# Altium footprint library CeleronLib_Connect.PcbLib: 219 footprints (part 8 of 14)
Each footprint in its own frame and in the unit in brackets; x right, y up, seen from the top. Pads: shape width x height; smd on the part's side, far side on the other; paste and mask are expansions set on the pad; w line width, h text height; cw(c..) or ccw(c..) is an arc to the next point about the centre after c.
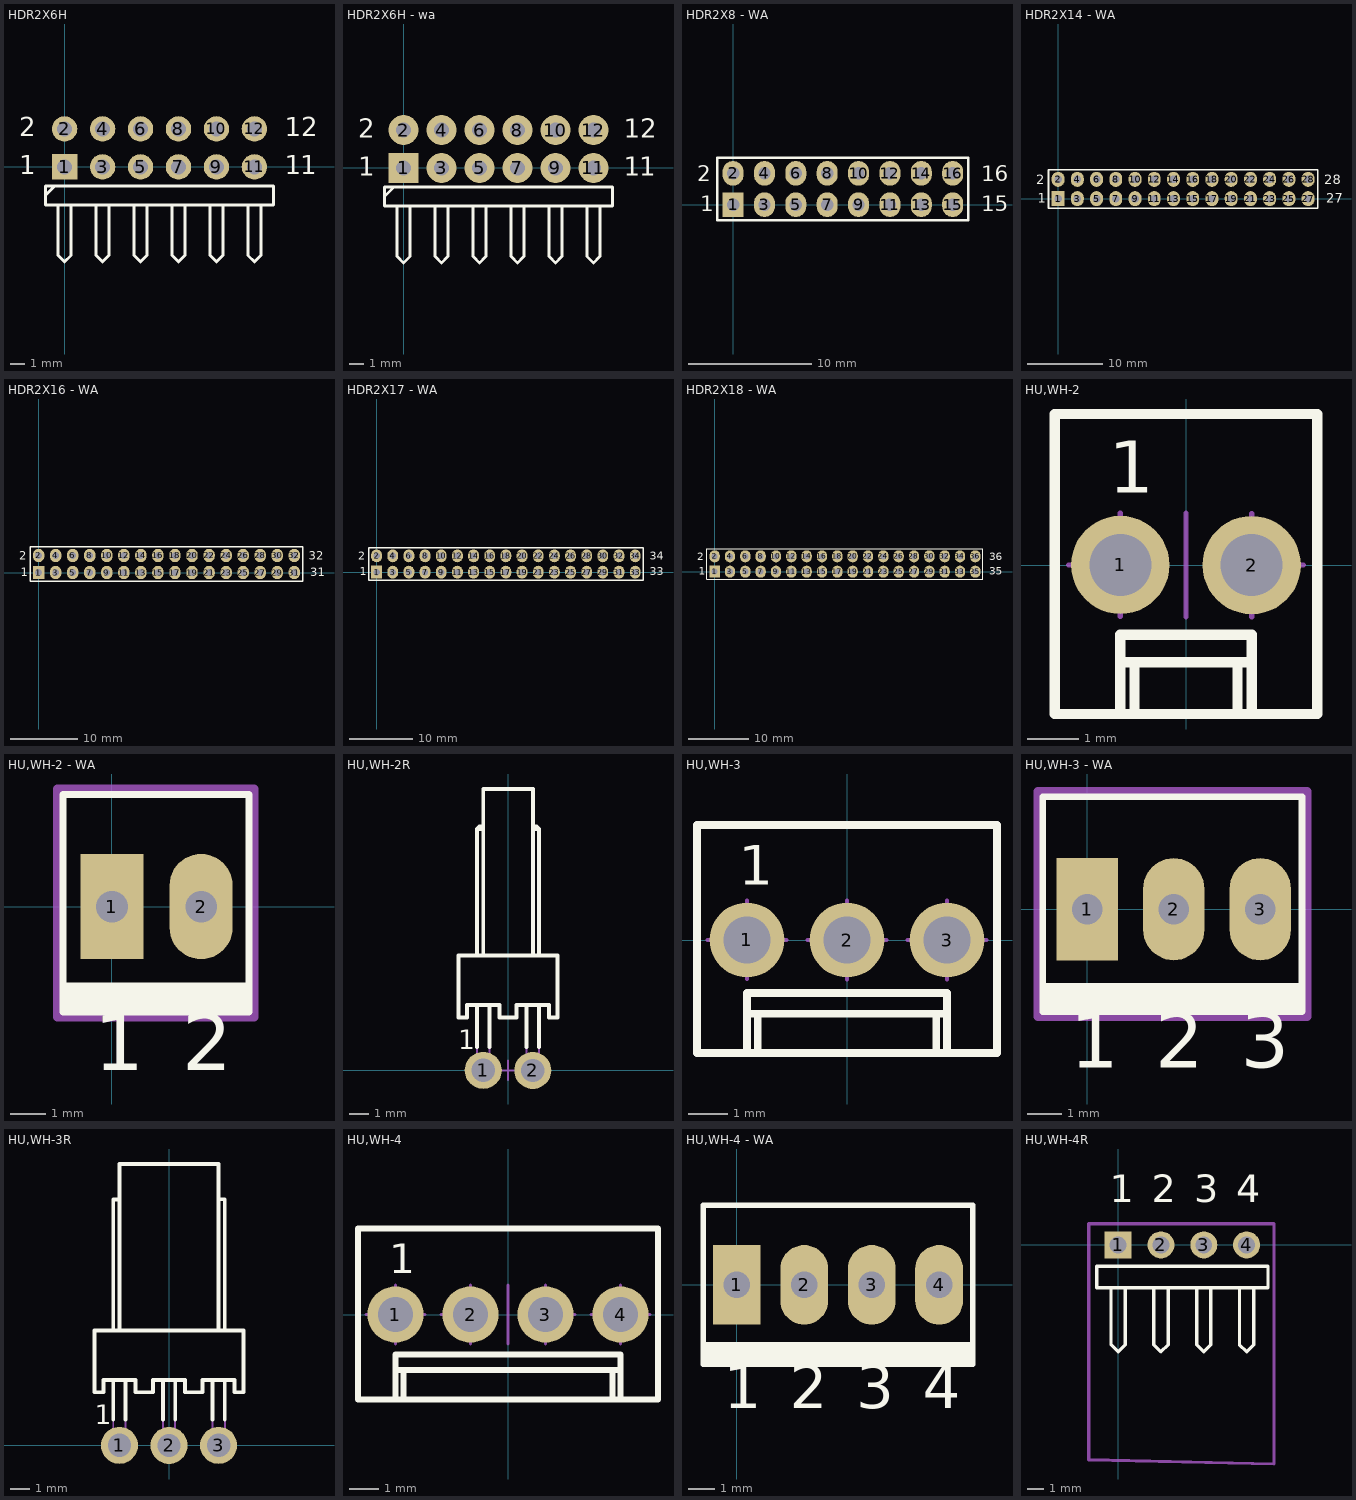
[diagram p7: the footprints below, top view; thin cyan lines are the x and y axes]

## HDR2X6H [mm] "Connector; Header; 6x2 Position; Right Angle"
height 7.5
pads (12):
  rect 1.7x1.7 hole 1: 1(0,0)
  round 1.7 hole 1: 2(0,2.54) 3(2.54,0) 4(2.54,2.54) 5(5.08,0) 6(5.08,2.54) 7(7.62,0) 8(7.62,2.54) 9(10.16,0) 10(10.16,2.54) 11(12.7,0) 12(12.7,2.54)
Top Overlay:
  lines w0.2: -1.27,-1.905 -0.635,-1.27 ; -0.423,-2.54 -0.423,-5.927 0,-6.35 0.423,-5.927 0.423,-2.54 ; 2.117,-2.54 2.117,-5.927 2.54,-6.35 2.963,-5.927 2.963,-2.54 ; 4.657,-2.54 4.657,-5.927 5.08,-6.35 5.503,-5.927 5.503,-2.54 ; 7.197,-2.54 7.197,-5.927 7.62,-6.35 8.043,-5.927 8.043,-2.54 ; 9.737,-2.54 9.737,-5.927 10.16,-6.35 10.583,-5.927 10.583,-2.54 ; 12.277,-2.54 12.277,-5.927 12.7,-6.35 13.123,-5.927 13.123,-2.54 ; -1.27,-2.54 -1.27,-1.27 13.97,-1.27 13.97,-2.54 -1.27,-2.54
  text "12" at 14.732,2.032 h1.27
  text "1" at 15.748,-0.508 h1.27
  text "1" at 14.732,-0.508 h1.27
  text "1" at -3.048,-0.508 h1.27
  text "2" at -3.048,2.032 h1.27

## HDR2X6H - wa [mm] "Connector; Header; 6x2 Position; Right Angle"
height 7.5
pads (12):
  rect 2x2 hole 1: 1(0,0)
  round 2 hole 1: 2(0,2.54) 3(2.54,0) 4(2.54,2.54) 5(5.08,0) 6(5.08,2.54) 7(7.62,0) 8(7.62,2.54) 9(10.16,0) 10(10.16,2.54) 11(12.7,0) 12(12.7,2.54)
Top Overlay:
  lines w0.2: -1.27,-1.905 -0.635,-1.27 ; -0.423,-2.54 -0.423,-5.927 0,-6.35 0.423,-5.927 0.423,-2.54 ; 2.117,-2.54 2.117,-5.927 2.54,-6.35 2.963,-5.927 2.963,-2.54 ; 4.657,-2.54 4.657,-5.927 5.08,-6.35 5.503,-5.927 5.503,-2.54 ; 7.197,-2.54 7.197,-5.927 7.62,-6.35 8.043,-5.927 8.043,-2.54 ; 9.737,-2.54 9.737,-5.927 10.16,-6.35 10.583,-5.927 10.583,-2.54 ; 12.277,-2.54 12.277,-5.927 12.7,-6.35 13.123,-5.927 13.123,-2.54 ; -1.27,-2.54 13.97,-2.54 13.97,-1.27 -1.27,-1.27 -1.27,-2.54
  text "2" at -3.048,2.032 h1.27
  text "1" at -3.048,-0.508 h1.27
  text "1" at 14.732,-0.508 h1.27
  text "1" at 15.748,-0.508 h1.27
  text "12" at 14.732,2.032 h1.27

## HDR2X8 - WA [mm] "Connector; Header; 16 Position"
height 8.54
pads (16):
  rect 1.7x2 hole 1: 1(0,0)
  oval 1.7x2 hole 1: 2(0,2.54) 3(2.54,0) 4(2.54,2.54) 5(5.08,0) 6(5.08,2.54) 7(7.62,0) 8(7.62,2.54) 9(10.16,0) 10(10.16,2.54) 11(12.7,0) 12(12.7,2.54) 13(15.24,0) 14(15.24,2.54) 15(17.78,0) 16(17.78,2.54)
Top Overlay:
  lines w0.2: -1.27,-1.27 -1.27,3.81 19.05,3.81 19.05,-1.27 -1.27,-1.27
  text "15" at 20.1,-0.533 h1.27
  text "16" at 20.1,1.905 h1.27
  text "2" at -2.921,1.905 h1.27
  text "1" at -2.665,-0.533 h1.27
3D body: height 9.55, standoff -2.95, extent 8.89,-1.27 19.05,3.81
3D body: height 9.55, standoff -2.95, extent -1.27,-1.27 8.89,3.81

## HDR2X14 - WA [mm] "Connector; Header; 28 Position"
height 8.54
pads (28):
  rect 1.7x2 hole 1: 1(0,0)
  oval 1.7x2 hole 1: 2(0,2.54) 3(2.54,0) 4(2.54,2.54) 5(5.08,0) 6(5.08,2.54) 7(7.62,0) 8(7.62,2.54) 9(10.16,0) 10(10.16,2.54) 11(12.7,0) 12(12.7,2.54) 13(15.24,0) 14(15.24,2.54) 15(17.78,0) 16(17.78,2.54) 17(20.32,0) 18(20.32,2.54) 19(22.86,0) 20(22.86,2.54) 21(25.4,0) 22(25.4,2.54) 23(27.94,0) 24(27.94,2.54) 25(30.48,0) 26(30.48,2.54) 27(33.02,0) 28(33.02,2.54)
Top Overlay:
  lines w0.2: -1.27,-1.27 -1.27,3.81 34.29,3.81 34.29,-1.27 -1.27,-1.27
  text "27" at 35.435,-0.533 h1.27
  text "28" at 35.179,1.905 h1.27
  text "2" at -2.921,1.905 h1.27
  text "1" at -2.665,-0.533 h1.27
3D body: height 9.55, standoff -2.95, extent 24.13,-1.27 34.29,3.81
3D body: height 9.55, standoff -2.95, extent 16.51,-1.27 26.67,3.81
3D body: height 9.55, standoff -2.95, extent 8.89,-1.27 19.05,3.81
3D body: height 9.55, standoff -2.95, extent -1.27,-1.27 8.89,3.81

## HDR2X16 - WA [mm] "Connector; Header; 32 Position"
height 8.54
pads (32):
  rect 1.7x2 hole 1: 1(0,0)
  oval 1.7x2 hole 1: 2(0,2.54) 3(2.54,0) 4(2.54,2.54) 5(5.08,0) 6(5.08,2.54) 7(7.62,0) 8(7.62,2.54) 9(10.16,0) 10(10.16,2.54) 11(12.7,0) 12(12.7,2.54) 13(15.24,0) 14(15.24,2.54) 15(17.78,0) 16(17.78,2.54) 17(20.32,0) 18(20.32,2.54) 19(22.86,0) 20(22.86,2.54) 21(25.4,0) 22(25.4,2.54) 23(27.94,0) 24(27.94,2.54) 25(30.48,0) 26(30.48,2.54) 27(33.02,0) 28(33.02,2.54) 29(35.56,0) 30(35.56,2.54) 31(38.1,0) 32(38.1,2.54)
Top Overlay:
  lines w0.2: -1.27,-1.27 -1.27,3.81 39.37,3.81 39.37,-1.27 -1.27,-1.27
  text "31" at 40.515,-0.533 h1.27
  text "32" at 40.259,1.905 h1.27
  text "2" at -2.921,1.905 h1.27
  text "1" at -2.665,-0.533 h1.27
3D body: height 9.55, standoff -2.95, extent 29.21,-1.27 39.37,3.81
3D body: height 9.55, standoff -2.95, extent 19.05,-1.27 29.21,3.81
3D body: height 9.55, standoff -2.95, extent 8.89,-1.27 19.05,3.81
3D body: height 9.55, standoff -2.95, extent -1.27,-1.27 8.89,3.81

## HDR2X17 - WA [mm] "Connector; Header; 34 Position"
height 8.54
pads (34):
  rect 1.7x2 hole 1: 1(0,0)
  oval 1.7x2 hole 1: 2(0,2.54) 3(2.54,0) 4(2.54,2.54) 5(5.08,0) 6(5.08,2.54) 7(7.62,0) 8(7.62,2.54) 9(10.16,0) 10(10.16,2.54) 11(12.7,0) 12(12.7,2.54) 13(15.24,0) 14(15.24,2.54) 15(17.78,0) 16(17.78,2.54) 17(20.32,0) 18(20.32,2.54) 19(22.86,0) 20(22.86,2.54) 21(25.4,0) 22(25.4,2.54) 23(27.94,0) 24(27.94,2.54) 25(30.48,0) 26(30.48,2.54) 27(33.02,0) 28(33.02,2.54) 29(35.56,0) 30(35.56,2.54) 31(38.1,0) 32(38.1,2.54) 33(40.64,0) 34(40.64,2.54)
Top Overlay:
  lines w0.2: -1.27,-1.27 -1.27,3.81 41.91,3.81 41.91,-1.27 -1.27,-1.27
  text "33" at 42.96,-0.533 h1.27
  text "34" at 42.96,1.905 h1.27
  text "2" at -2.921,1.905 h1.27
  text "1" at -2.665,-0.533 h1.27
3D body: height 9.55, standoff -2.95, extent 29.21,-1.27 39.37,3.81
3D body: height 9.55, standoff -2.95, extent 19.05,-1.27 29.21,3.81
3D body: height 9.55, standoff -2.95, extent 8.89,-1.27 19.05,3.81
3D body: height 9.55, standoff -2.95, extent -1.27,-1.27 8.89,3.81
3D body: height 9.55, standoff -2.95, extent 31.75,-1.27 41.91,3.81

## HDR2X18 - WA [mm] "Connector; Header; 36 Position"
height 8.54
pads (36):
  rect 1.7x2 hole 1: 1(0,0)
  oval 1.7x2 hole 1: 2(0,2.54) 3(2.54,0) 4(2.54,2.54) 5(5.08,0) 6(5.08,2.54) 7(7.62,0) 8(7.62,2.54) 9(10.16,0) 10(10.16,2.54) 11(12.7,0) 12(12.7,2.54) 13(15.24,0) 14(15.24,2.54) 15(17.78,0) 16(17.78,2.54) 17(20.32,0) 18(20.32,2.54) 19(22.86,0) 20(22.86,2.54) 21(25.4,0) 22(25.4,2.54) 23(27.94,0) 24(27.94,2.54) 25(30.48,0) 26(30.48,2.54) 27(33.02,0) 28(33.02,2.54) 29(35.56,0) 30(35.56,2.54) 31(38.1,0) 32(38.1,2.54) 33(40.64,0) 34(40.64,2.54) 35(43.18,0) 36(43.18,2.54)
Top Overlay:
  lines w0.2: -1.27,-1.27 -1.27,3.81 44.45,3.81 44.45,-1.27 -1.27,-1.27
  text "35" at 45.5,-0.533 h1.27
  text "36" at 45.5,1.905 h1.27
  text "2" at -2.921,1.905 h1.27
  text "1" at -2.665,-0.533 h1.27
3D body: height 9.55, standoff -2.95, extent 29.21,-1.27 39.37,3.81
3D body: height 9.55, standoff -2.95, extent 19.05,-1.27 29.21,3.81
3D body: height 9.55, standoff -2.95, extent 8.89,-1.27 19.05,3.81
3D body: height 9.55, standoff -2.95, extent -1.27,-1.27 8.89,3.81
3D body: height 9.55, standoff -2.95, extent 34.29,-1.27 44.45,3.81

## HU,WH-2 [mm] "2.54mm (.100\") Pitch KK® Header, Single Row, Vertical, 2 Circuits"
height 11.7
pads (2):
  round 1.9 hole 1.2: 1(-1.27,0.002) 2(1.27,-0.002)
Top Overlay:
  lines w0.2: -1.27,-2.88 -1.27,-1.35 1.27,-1.35 1.27,-2.88 ; -1.27,-1.88 1.27,-1.88 ; -0.997,-2.88 -0.997,-1.88 ; 0.997,-2.88 0.997,-1.88 ; -2.54,-2.88 -2.54,2.92 2.54,2.92 2.54,-2.88 -2.54,-2.88
  text "1" at -1.49,1.397 h1
Mechanical 8:
  lines w0.1: -2.27,0.002 -1.27,0.002 ; -1.27,-0.998 -1.27,0.002 ; -1.27,1.002 -1.27,0.002 ; 0,-1 0,0 0,1 ; 1.27,-1.002 1.27,-0.002 ; 1.27,0.998 1.27,-0.002 ; 2.27,-0.002 1.27,-0.002
Top Assy:
  lines w0.1: -1.27,-2.88 -1.27,-1.35 1.27,-1.35 1.27,-2.88 ; -1.27,-1.88 1.27,-1.88 ; -0.997,-2.88 -0.997,-1.88 ; 0.997,-2.88 0.997,-1.88 ; -2.54,-2.88 -2.54,2.92 2.54,2.92 2.54,-2.88 -2.54,-2.88 ; -1.59,-0.315 -1.59,0.32 -0.95,0.32 -0.95,-0.315 -1.59,-0.315 ; 0.95,-0.32 1.59,-0.32 1.59,0.32 0.95,0.32 0.95,-0.32
  text "1" at -1.49,1.397 h1
3D body: height 11.7, standoff -3.56, extent -2.54,-2.88 2.54,2.92

## HU,WH-2 - WA [mm] "Connector; Header; 2 Position"
height 16.2
pads (2):
  rect 1.8x3 hole 0.9: 1(0,0)
  oval 1.8x3 hole 0.9: 2(2.54,0)
Top Overlay:
  rectangle: -1.4,-3 4,-2.159
  lines w0.2: -1.4,-3 -1.4,3.2 3.9,3.2 3.9,-3 -1.4,-3
  text "2" at 2,-5.2 h2.8
  text "1" at -0.5,-5.2 h2.8
Top Courtyard:
  lines w0.254: -1.55,-3.15 4.05,-3.15 4.05,3.35 -1.55,3.35 -1.55,-3.15
3D body: height 11.45, standoff -2.95, extent -1.25,-2.6 3.75,3.2

## HU,WH-2R [mm] "2.54mm (.100\") Pitch KK® Wire-To-Board Header, Right Angle, With Friction Lock, 2 Circuits"
height 5.8
pads (2):
  round 1.9 hole 1.2: 1(-1.27,0.002) 2(1.27,-0.002)
Top Overlay:
  lines w0.2: -1.587,1.209 -1.587,3.355 ; -1.587,5.895 -1.587,12.368 ; -1.27,5.895 -1.27,14.42 1.27,14.42 1.27,5.895 ; -1.27,12.368 -1.587,12.368 ; -1.27,12.495 -1.46,12.495 -1.587,12.368 ; -0.953,1.209 -0.953,3.355 ; 0.953,1.209 0.953,3.355 ; 1.27,12.368 1.587,12.368 ; 1.27,12.495 1.46,12.495 1.587,12.368 ; 1.587,1.209 1.587,3.355 ; 1.587,5.895 1.587,12.368 ; -2.54,2.72 -2.095,2.72 -2.095,3.355 -0.445,3.355 -0.445,2.72 0.445,2.72 0.445,3.355 2.095,3.355 2.095,2.72 2.54,2.72 2.54,5.895 -2.54,5.895 -2.54,2.72
  text "1" at -2.542,1.095 h1
Mechanical 8:
  lines w0.1: -1.77,0 -1.27,0 ; -1.27,-0.5 -1.27,0 ; -1.27,0.5 -1.27,0 ; -0.77,0 -1.27,0 ; -0.5,0 0,0 ; 0,-0.5 0,0 ; 0,0.5 0,0 ; 0.5,0 0,0 ; 0.77,0 1.27,0 ; 1.27,-0.5 1.27,0 ; 1.27,0.5 1.27,0 ; 1.77,0 1.27,0
Top Assy:
  lines w0.1: -1.587,3.355 -1.587,-0.318 -0.953,-0.318 -0.953,3.355 ; -1.587,5.895 -1.587,12.368 ; -1.27,5.895 -1.27,14.42 1.27,14.42 1.27,5.895 ; -1.27,12.368 -1.587,12.368 ; -1.27,12.495 -1.46,12.495 -1.587,12.368 ; 0.953,3.355 0.953,-0.318 1.587,-0.318 1.587,3.355 ; 1.27,12.368 1.587,12.368 ; 1.27,12.495 1.46,12.495 1.587,12.368 ; 1.587,5.895 1.587,12.368 ; -2.54,2.72 -2.095,2.72 -2.095,3.355 -0.445,3.355 -0.445,2.72 0.445,2.72 0.445,3.355 2.095,3.355 2.095,2.72 2.54,2.72 2.54,5.895 -2.54,5.895 -2.54,2.72
  text "1" at -2.542,1.095 h1
3D body: height 5.84, standoff -3.8, extent -2.54,-0.317 2.54,14.42

## HU,WH-3 [mm] "2.54mm (.100\") Pitch KK® Header, Single Row, Vertical, 3 Circuits"
height 11.7
pads (3):
  round 1.9 hole 1.2: 1(-2.54,0.005) 2(0,0) 3(2.54,0)
Top Overlay:
  lines w0.2: -2.54,-2.873 -2.54,-1.342 2.54,-1.342 2.54,-2.873 ; -2.54,-1.873 2.54,-1.873 ; -2.267,-2.873 -2.267,-1.873 ; 2.267,-2.873 2.267,-1.873 ; -3.81,-2.873 3.81,-2.873 3.81,2.928 -3.81,2.928 -3.81,-2.873
  text "1" at -2.75,1.4 h1
Mechanical 8:
  lines w0.1: -3.54,0.005 -2.54,0.005 ; -2.54,-0.995 -2.54,0.005 ; -2.54,1.005 -2.54,0.005 ; -1.54,0.005 -2.54,0.005 ; -1,0 0,0 ; 0,-1 0,0 ; 0,1 0,0 ; 1,0 0,0 ; 1.54,0 2.54,0 ; 2.54,-1 2.54,0 ; 2.54,1 2.54,0 ; 3.54,0 2.54,0
Top Assy:
  lines w0.1: -2.86,-0.312 -2.22,-0.312 -2.22,0.327 -2.86,0.327 -2.86,-0.308 ; -2.54,-2.873 -2.54,-1.342 2.54,-1.342 2.54,-2.873 ; -2.54,-1.873 2.54,-1.873 ; -2.267,-2.873 -2.267,-1.873 ; -0.32,-0.318 0.32,-0.318 0.32,0.323 -0.32,0.323 -0.32,-0.312 ; 2.22,-0.318 2.86,-0.318 2.86,0.323 2.22,0.323 2.22,-0.312 ; 2.267,-2.873 2.267,-1.873 ; -3.81,-2.873 3.81,-2.873 3.81,2.928 -3.81,2.928 -3.81,-2.873
  text "1" at -2.75,1.4 h1
3D body: height 11.7, standoff -3.56, extent -3.81,-2.873 3.81,2.927

## HU,WH-3 - WA [mm] "Connector; Header; 3 Position"
height 16.2
pads (3):
  rect 1.8x3 hole 0.9: 1(0,0)
  oval 1.8x3 hole 0.9: 2(2.54,0) 3(5.08,0)
Top Overlay:
  rectangle: -1.25,-3 6.3,-2.159
  lines w0.2: -1.3,-3 6.3,-3 6.3,3.3 -1.3,3.3 -1.3,-3
  text "2" at 2,-5.2 h2.8
  text "3" at 4.5,-5.2 h2.8
  text "1" at -0.5,-5.2 h2.8
Top Courtyard:
  lines w0.254: -1.45,-3.15 6.45,-3.15 6.45,3.45 -1.45,3.45 -1.45,-3.15
3D body: height 11.47, standoff -2.93, extent -1.25,-2.6 6.25,3.2

## HU,WH-3R [mm] "2.54mm (.100\") Pitch KK® Wire-To-Board Header, Right Angle, With Friction Lock, 3 Circuits"
height 5.8
pads (3):
  round 1.9 hole 1.2: 1(-2.54,0) 2(0,-0.005) 3(2.54,0)
Top Overlay:
  lines w0.2: -2.858,1.312 -2.858,3.355 ; -2.858,5.895 -2.858,12.605 -2.54,12.605 ; -2.54,5.895 -2.54,14.42 2.54,14.42 2.54,5.895 ; -2.222,1.312 -2.222,3.355 ; -0.318,1.312 -0.318,3.355 ; 0.318,1.312 0.318,3.355 ; 2.222,1.312 2.222,3.355 ; 2.54,12.634 2.858,12.605 2.858,5.895 ; 2.858,1.312 2.858,3.355 ; -3.81,2.72 -3.81,5.895 ; -3.81,2.72 -3.366,2.72 -3.366,3.355 -1.714,3.355 -1.714,2.72 -0.826,2.72 -0.826,3.355 0.826,3.355 0.826,2.72 1.714,2.72 1.714,3.355 3.366,3.355 3.366,2.72 3.81,2.72 3.81,5.895 -3.81,5.895 ; -3.81,2.72 -3.81,5.895
  text "1" at -3.812,1.093 h1
Mechanical 8:
  lines w0.1: -3.04,0 -2.54,0 ; -2.54,-0.5 -2.54,0 ; -2.54,0.5 -2.54,0 ; -2.04,0 -2.54,0 ; -0.5,0 0,0 ; 0,-0.5 0,0 ; 0,0.5 0,0 ; 0.5,0 0,0 ; 2.04,0 2.54,0 ; 2.54,-0.5 2.54,0 ; 2.54,0.5 2.54,0 ; 3.04,0 2.54,0
Top Assy:
  lines w0.1: -2.858,3.355 -2.858,-0.318 -2.222,-0.318 -2.222,3.355 ; -2.858,5.895 -2.858,12.605 -2.54,12.605 ; -2.54,5.895 -2.54,14.42 2.54,14.42 2.54,5.895 ; -0.318,3.355 -0.318,-0.318 0.318,-0.318 0.318,3.355 ; 2.222,3.355 2.222,-0.318 2.858,-0.318 2.858,3.355 ; 2.54,12.634 2.858,12.605 2.858,5.895 ; -3.81,2.72 -3.81,5.895 ; -3.81,2.72 -3.366,2.72 -3.366,3.355 -1.714,3.355 -1.714,2.72 -0.826,2.72 -0.826,3.355 0.826,3.355 0.826,2.72 1.714,2.72 1.714,3.355 3.366,3.355 3.366,2.72 3.81,2.72 3.81,5.895 -3.81,5.895 ; -3.81,2.72 -3.81,5.895
  text "1" at -3.812,1.093 h1
3D body: height 5.84, standoff -3.8, extent -3.81,-0.317 3.81,14.42

## HU,WH-4 [mm] "2.54mm (.100\") Pitch KK® Header, Single Row, Vertical, 4 Circuits"
height 11.7
pads (4):
  round 1.9 hole 1.2: 1(-3.81,0) 2(-1.27,0) 3(1.27,0) 4(3.81,0)
Top Overlay:
  lines w0.2: -3.81,-2.883 -3.81,-1.353 3.81,-1.353 3.81,-2.883 ; -3.81,-1.883 3.81,-1.883 ; -3.537,-2.883 -3.537,-1.883 ; 3.537,-2.883 3.537,-1.883 ; -5.08,-2.883 5.08,-2.883 5.08,2.918 -5.08,2.918 -5.08,-2.883
  text "1" at -4.02,1.395 h1
Mechanical 8:
  lines w0.1: -4.81,0 -3.81,0 ; -3.81,-1 -3.81,0 ; -3.81,1 -3.81,0 ; -2.81,0 -3.81,0 ; -2.27,0 -1.27,0 ; -1.27,-1 -1.27,0 ; -1.27,1 -1.27,0 ; 0,-1 0,0 0,1 ; 1.27,-1 1.27,0 ; 1.27,1 1.27,0 ; 2.27,0 1.27,0 ; 2.81,0 3.81,0 ; 3.81,-1 3.81,0 ; 3.81,1 3.81,0 ; 4.81,0 3.81,0
Top Assy:
  lines w0.1: -3.81,-2.883 -3.81,-1.353 3.81,-1.353 3.81,-2.883 ; -3.81,-1.883 3.81,-1.883 ; -3.537,-2.883 -3.537,-1.883 ; 3.537,-2.883 3.537,-1.883 ; -5.08,-2.883 5.08,-2.883 5.08,2.918 -5.08,2.918 -5.08,-2.883 ; -4.13,-0.318 -4.13,0.318 -3.49,0.318 -3.49,-0.318 -4.13,-0.318 ; -1.59,-0.318 -1.59,0.318 -0.95,0.318 -0.95,-0.318 -1.59,-0.318 ; 0.95,-0.318 0.95,0.318 1.59,0.318 1.59,-0.318 0.95,-0.318 ; 3.49,-0.318 3.49,0.318 4.13,0.318 4.13,-0.318 3.49,-0.318
  text "1" at -4.02,1.395 h1
3D body: height 11.7, standoff -3.56, extent -5.08,-2.883 5.08,2.917

## HU,WH-4 - WA [mm] "Connector; Header; 4 Position"
height 16.2
pads (4):
  rect 1.8x3 hole 1: 1(0,0)
  oval 1.8x3 hole 1: 2(2.54,0) 3(5.08,0) 4(7.62,0)
Top Overlay:
  rectangle: -1.25,-3 8.9,-2.159
  lines w0.2: -1.27,-3 -1.27,3 8.89,3 8.89,-3 -1.27,-3
  text "1" at -0.5,-5.2 h2.8
  text "2" at 2,-5.2 h2.8
  text "3" at 4.5,-5.2 h2.8
  text "4" at 7,-5.2 h2.8
3D body: height 11.7, standoff -3.56, extent -1.27,-2.883 8.89,2.917

## HU,WH-4R [mm] "Connector; Header; 4 Position; Right Angle"
height 16.2
pads (4):
  rect 1.6x1.6 hole 1: 1(0,0)
  round 1.6 hole 1: 2(2.54,0) 3(5.08,0) 4(7.62,0)
Top Overlay:
  lines w0.2: -0.423,-2.54 -0.423,-5.927 0,-6.35 0.423,-5.927 0.423,-2.54 ; 2.117,-2.54 2.117,-5.927 2.54,-6.35 2.963,-5.927 2.963,-2.54 ; 4.657,-2.54 4.657,-5.927 5.08,-6.35 5.503,-5.927 5.503,-2.54 ; 7.197,-2.54 7.197,-5.927 7.62,-6.35 8.043,-5.927 8.043,-2.54 ; -1.27,-2.54 -1.27,-1.27 8.89,-1.27 8.89,-2.54 -1.27,-2.54
  text "1" at -0.5,2 h2.8
  text "2" at 2,2 h2.8
  text "3" at 4.5,2 h2.8
  text "4" at 7,2 h2.8
Top Courtyard:
  lines w0.2: -1.75,-12.75 9.25,-13 9.25,1.25 9,1.25 -1.25,1.25 -1.75,1.25 -1.75,-12.75